# Altium footprint library 9-SIL.PcbLib: 1 footprints
Each footprint in its own frame and in the unit in brackets; x right, y up, seen from the top. Pads: shape width x height; smd on the part's side, far side on the other; paste and mask are expansions set on the pad; w line width, h text height; cw(c..) or ccw(c..) is an arc to the next point about the centre after c.
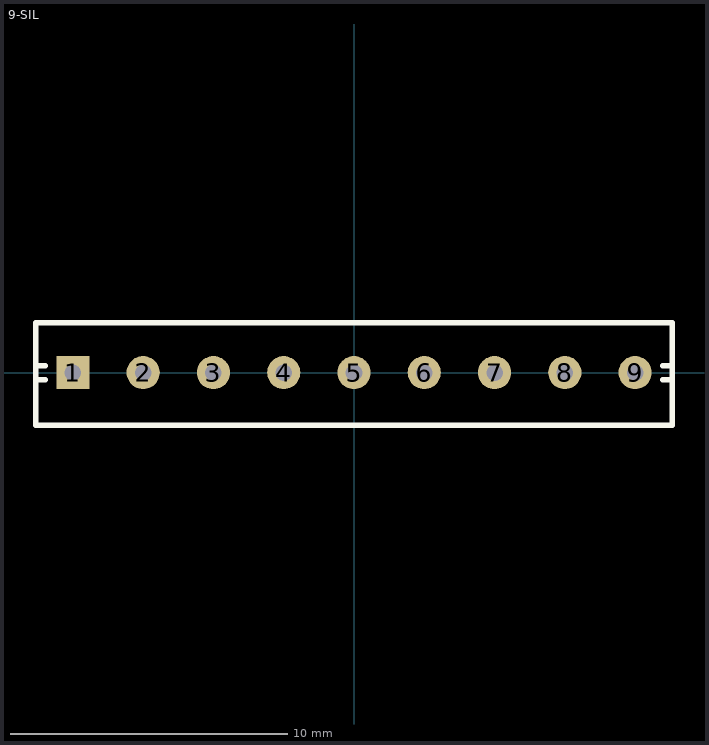
[diagram p0: the footprint, top view; thin cyan lines are the x and y axes]

## 9-SIL [mm]
pads (9):
  rect 1.2x1.2 hole 0.6: 1(-10.16,0)
  round 1.2 hole 0.6: 2(-7.62,0) 3(-5.08,0) 4(-2.54,0) 5(0,0) 6(2.54,0) 7(5.08,0) 8(7.62,0) 9(10.16,0)
Top Overlay:
  lines w0.2: -11.5,-0.25 -11.16,-0.25 ; -11.5,0.25 -11.16,0.25 ; 11.16,-0.25 11.5,-0.25 ; 11.16,0.25 11.5,0.25 ; -11.5,-1.9 11.5,-1.9 11.5,1.8 -11.5,1.8 -11.5,-1.9